# Altium footprint library myComponents.PcbLib: 43 footprints (part 1 of 3)
Each footprint in its own frame and in the unit in brackets; x right, y up, seen from the top. Pads: shape width x height; smd on the part's side, far side on the other; paste and mask are expansions set on the pad; w line width, h text height; cw(c..) or ccw(c..) is an arc to the next point about the centre after c.
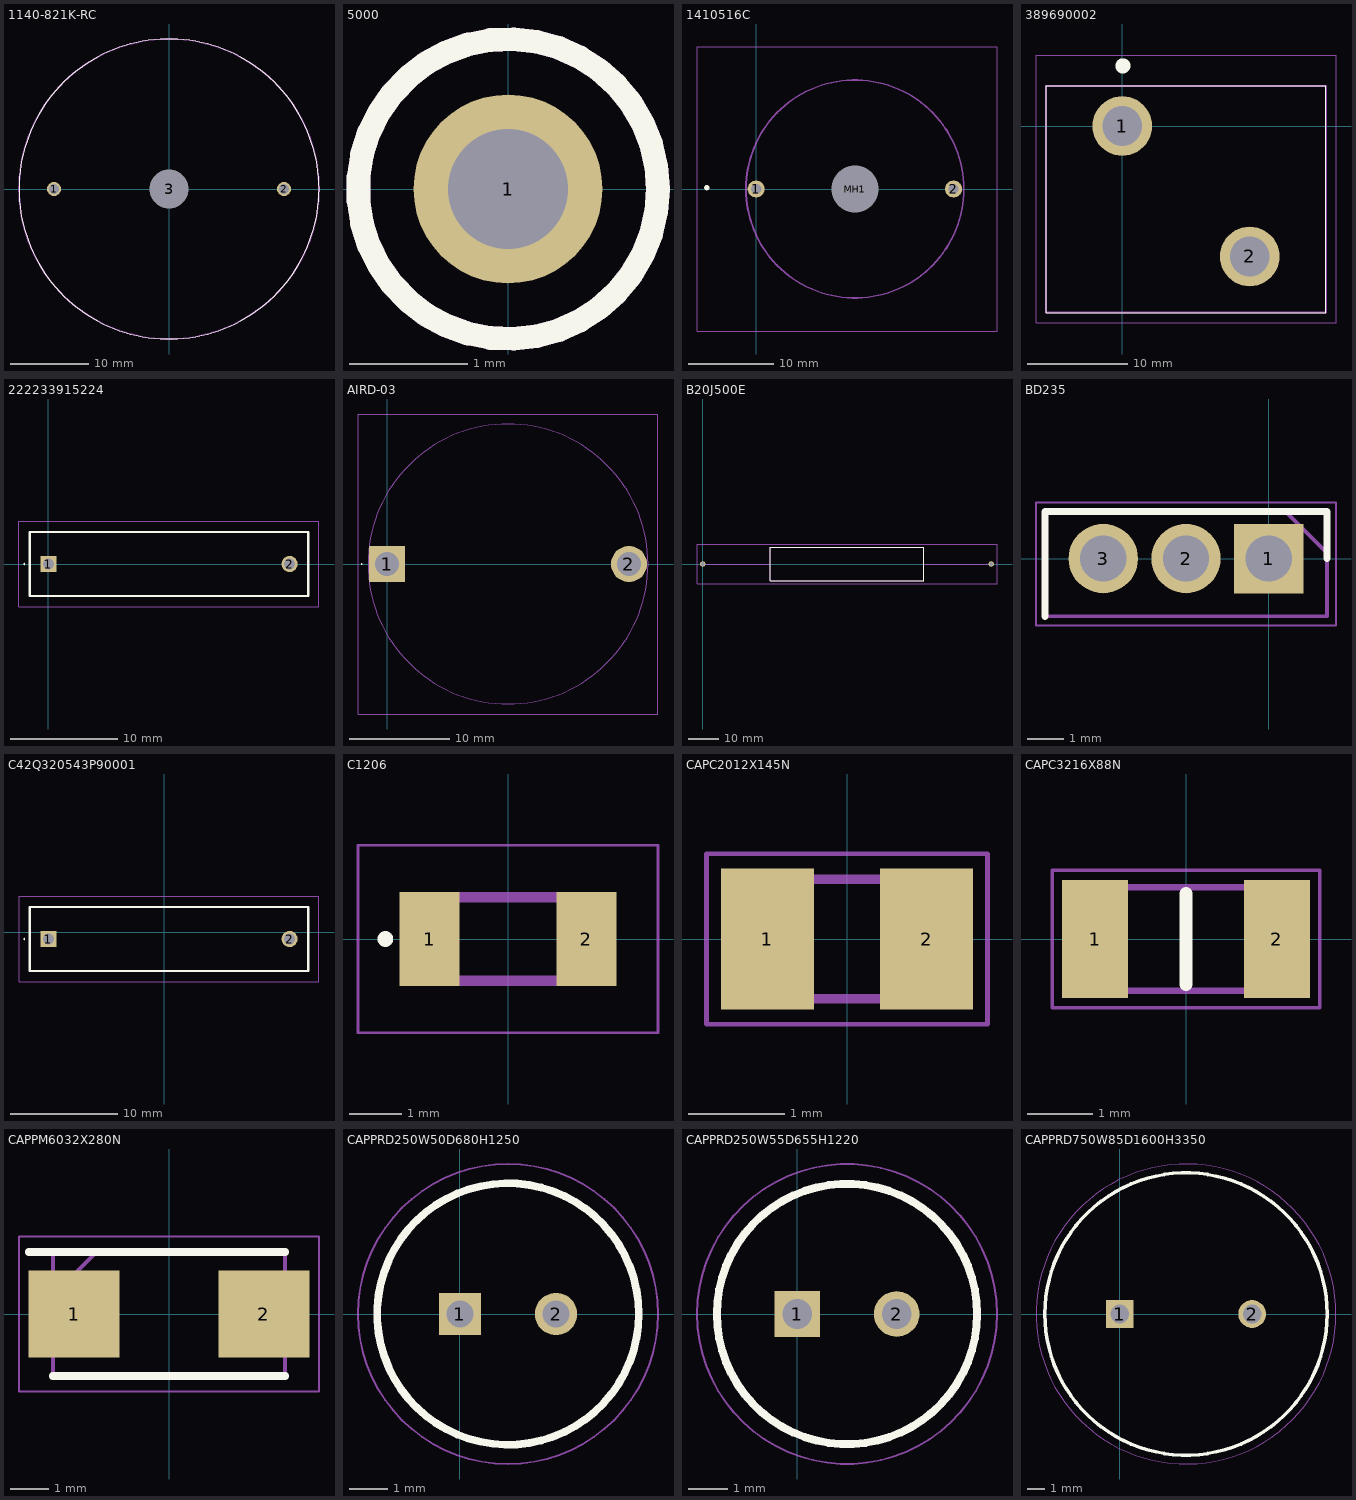
[diagram p0: the footprints below, top view; thin cyan lines are the x and y axes]

## 1140-821K-RC [mm] "4.2A 820uH ±10% 154mΩ 7.2A Through Hole,D38.1xL26.2mm Fixed Inductors RoHS"
pads (3):
  round 1.8 hole 1.216: 1(-14.605,0) 2(14.605,0)
  round 2.451 hole 4.902 unplated: 3(0,0)
Top Overlay:
  lines w0.1: -19.05,0 cw(c0,0) 19.05,0 cw(c0,0) -19.05,0
Mechanical 13:
  lines w0.2: -19.05,0 cw(c0,0) 19.05,0 cw(c0,0) -19.05,0
3D body "1140-821K-RC.stp": height 26.7, standoff -12.16, extent -19.045,-19.05 19.055,19.05

## 5000 [mm]
pads (1):
  round 1.6 hole 1.02: 1(0,0)
Top Overlay:
  circle w0.2: c0,0 r1.27
Mechanical 13:
  circle w0.2: c0,0 r1.27
  circle w0.2: c0,0 r1.27
3D body "5000.stp": height 5, standoff -2.62, extent -1.261,-1.27 1.261,1.27

## 1410516C [mm]
pads (3):
  round 2 hole 1.2: 1(0,0) 2(23.2,0)
  round 2.75 hole 5.5 unplated: MH1(11.6,0)
Top Overlay:
  lines w0.3: -5.8,0 ccw(c-5.8,0.15) -5.8,0.3 ccw(c-5.8,0.15) -5.8,0
Mechanical 13:
  lines w0.2: -1.2,0 ccw(c11.6,0) 24.4,0 ccw(c11.6,0) -1.2,0
Mechanical 15:
  lines w0.1: -6.95,-16.7 28.3,-16.7 28.3,16.7 -6.95,16.7 -6.95,-16.7
3D body "1410516C.stp": height 15.5, standoff -12, extent -1.2,-12.8 24.4,12.8

## 389690002 [mm]
pads (2):
  round 5.94 hole 3.96: 1(0,0) 2(12.7,-13)
Top Overlay:
  lines w0.1: -7.6,-18.6 -7.6,4 20.3,4 20.3,-18.6 -7.6,-18.6
  lines w1.4: 0,6 cw(c0.05,6) 0.1,6 cw(c0.05,6) 0,6
Mechanical 13:
  lines w0.2: -7.6,-18.6 -7.6,4 20.3,4 20.3,-18.6 -7.6,-18.6
Mechanical 15:
  lines w0.1: -8.6,-19.6 -8.6,7.05 21.3,7.05 21.3,-19.6 -8.6,-19.6
3D body "38969-0002.stp": height 22.48, standoff -4.19, extent -7.73,-18.38 20.21,3.21

## 222233915224 [mm]
pads (2):
  rect 1.5x1.5 hole 1: 1(0,0)
  round 1.5 hole 1: 2(22.5,0)
Top Overlay:
  lines w0.1: -2.3,0 ccw(c-2.25,0) -2.2,0 ccw(c-2.25,0) -2.3,0
  lines w0.2: -1.75,-3 -1.75,3 24.25,3 24.25,-3 -1.75,-3
Mechanical 13:
  lines w0.1: -1.75,-3 -1.75,3 24.25,3 24.25,-3 -1.75,-3
Mechanical 15:
  lines w0.1: -2.75,-4 -2.75,4 25.25,4 25.25,-4 -2.75,-4
3D body "222233915224.stp": height 15.6, standoff -5, extent -1.75,-3 24.25,3

## AIRD-03 [mm]
pads (2):
  rect 3.6x3.6 hole 2.4: 1(0,0)
  round 3.6 hole 2.4: 2(24.2,0)
Top Overlay:
  lines w0.1: -2.6,0 cw(c-2.55,0) -2.5,0 cw(c-2.55,0) -2.6,0
Mechanical 13:
  lines w0.1: 12.1,-14 ccw(c12.1,0) 12.1,14 ccw(c12.1,0) 12.1,-14
Mechanical 15:
  lines w0.1: -2.9,-15 -2.9,15 27.1,15 27.1,-15 -2.9,-15
3D body "AIRD-03-102K.stp": height 21.6, standoff -11.9, extent -1.9,-13.996 26.1,13.996

## B20J500E [mm]
pads (2):
  round 1.83 hole 1.22: 1(0,0) 2(95.24,0)
Top Overlay:
  lines w0.2: 22.22,-5.555 22.22,5.555 73.02,5.555 73.02,-5.555 22.22,-5.555
Mechanical 13:
  lines w0.1: 0,0 22.22,0 ; 73.02,0 95.24,0 ; 22.22,-5.555 22.22,5.555 73.02,5.555 73.02,-5.555 22.22,-5.555
Mechanical 15:
  lines w0.1: -1.915,-6.555 -1.915,6.555 97.155,6.555 97.155,-6.555 -1.915,-6.555
3D body "B20J500E.stp": height 14.44, standoff 0, extent -10.382,-5.562 105.622,5.562

## BD235 [mm]
pads (3):
  rect 1.92x1.92 hole 1.28: 1(0,0)
  round 1.92 hole 1.28: 2(-2.29,0) 3(-4.58,0)
Top Overlay:
  lines w0.2: -6.19,-1.6 -6.19,1.3 1.61,1.3 1.61,0
Mechanical 13:
  lines w0.1: 0.465,1.3 1.61,0.155 ; -6.19,-1.6 1.61,-1.6 1.61,1.3 -6.19,1.3 -6.19,-1.6
Mechanical 15:
  lines w0.05: -6.44,-1.85 1.86,-1.85 1.86,1.55 -6.44,1.55 -6.44,-1.85
3D body "2SD882.stp": height 12.93, standoff -12.87, extent -5.99,-1.35 1.41,1.05

## C42Q320543P90001 [mm]
pads (2):
  rect 1.5x1.5 hole 1: 1(-10.795,-0.635)
  round 1.5 hole 1: 2(11.705,-0.635)
Top Overlay:
  lines w0.1: -13.095,-0.635 cw(c-13.045,-0.635) -12.995,-0.635 cw(c-13.045,-0.635) -13.095,-0.635
  lines w0.2: -12.545,-3.635 13.455,-3.635 13.455,2.365 -12.545,2.365 -12.545,-3.635
Mechanical 13:
  lines w0.1: -12.545,-3.635 13.455,-3.635 13.455,2.365 -12.545,2.365 -12.545,-3.635
Mechanical 15:
  lines w0.1: -13.545,-4.635 14.455,-4.635 14.455,3.365 -13.545,3.365 -13.545,-4.635
3D body "222233915224.stp": height 15.6, standoff -5, extent -12.545,-3.635 13.455,2.365

## C1206 [mm]
pads (2):
  rect 1.15x1.8 smd: 1(-1.5,0) 2(1.5,0)
Top Overlay:
  circle w0.2: c-2.35,0 r0.05
Mechanical 13:
  lines w0.2: -1.6,-0.8 -1.6,0.8 1.6,0.8 1.6,-0.8 -1.6,-0.8
Mechanical 15:
  lines w0.05: -2.875,-1.8 -2.875,1.8 2.875,1.8 2.875,-1.8 -2.875,-1.8
3D body "C1206C472K5RACTU.stp": height 0, standoff -1.8, extent 0,0 3.4,0.88

## CAPC2012X145N [mm]
pads (2):
  rect 0.97x1.47 smd: 1(-0.83,0) 2(0.83,0)
Mechanical 13:
  lines w0.1: -1,-0.625 -1,0.625 1,0.625 1,-0.625 -1,-0.625
Mechanical 15:
  lines w0.05: -1.465,-0.89 -1.465,0.89 1.465,0.89 1.465,-0.89 -1.465,-0.89
3D body "GRM21BR71H473KA01L.stp": height 1.45, standoff 0, extent -1,-0.625 1,0.625

## CAPC3216X88N [mm]
pads (2):
  rect 1.02x1.82 smd: 1(-1.4,0) 2(1.4,0)
Top Overlay:
  lines w0.2: 0,-0.7 0,0.7
Mechanical 13:
  lines w0.1: -1.6,-0.8 -1.6,0.8 1.6,0.8 1.6,-0.8 -1.6,-0.8
Mechanical 15:
  lines w0.05: -2.06,-1.06 -2.06,1.06 2.06,1.06 2.06,-1.06 -2.06,-1.06
3D body "C1206C101J5GACTU7990.stp": height 0.88, standoff 0, extent -1.7,-0.9 1.7,0.9

## CAPPM6032X280N [mm]
pads (2):
  rect 2.35x2.25 smd: 1(-2.45,0) 2(2.45,0)
Top Overlay:
  lines w0.2: -3.625,1.6 3,1.6 ; -3,-1.6 3,-1.6
Mechanical 13:
  lines w0.1: -3,0.475 -1.875,1.6 ; -3,-1.6 3,-1.6 3,1.6 -3,1.6 -3,-1.6
Mechanical 15:
  lines w0.05: -3.875,-2 3.875,-2 3.875,2 -3.875,2 -3.875,-2
3D body "293D226X9025C2TE3.stp": height 2.54, standoff 0, extent -3.098,-1.674 3.1,1.678

## CAPPRD250W50D680H1250 [mm]
pads (2):
  rect 1.1x1.1 hole 0.7: 1(0,0)
  round 1.1 hole 0.7: 2(2.5,0)
Top Overlay:
  circle w0.2: c1.25,0 r3.4
Mechanical 13:
  circle w0.1: c1.25,0 r3.4
Mechanical 15:
  circle w0.05: c1.25,0 r3.9
3D body "MAL203856101E3.stp": height 12.5, standoff -10, extent -2.138,-3.397 4.65,3.397

## CAPPRD250W55D655H1220 [mm]
pads (2):
  rect 1.15x1.15 hole 0.75: 1(0,0)
  round 1.15 hole 0.75: 2(2.5,0)
Top Overlay:
  circle w0.2: c1.25,0 r3.275
Mechanical 13:
  circle w0.1: c1.25,0 r3.275
Mechanical 15:
  circle w0.05: c1.25,0 r3.775
3D body "EEU-FC1V470.stp": height 12.2, standoff -10, extent -2.138,-3.397 4.65,3.397

## CAPPRD750W85D1600H3350 [mm]
pads (2):
  rect 1.575x1.575 hole 1.05: 1(0,0)
  round 1.575 hole 1.05: 2(7.5,0)
Top Overlay:
  circle w0.2: c3.75,0 r8
Mechanical 13:
  circle w0.1: c3.75,0 r8
Mechanical 15:
  circle w0.05: c3.75,0 r8.5
3D body "EEU-ED2W330.stp": height 33.5, standoff -10, extent -4.5,-8.234 12,8.234